# Altium schematic symbol library Schlib_Human_Machine_Interface.SchLib: 4 symbols
Pins are listed as number, name and electrical type; pins without a type are passive.

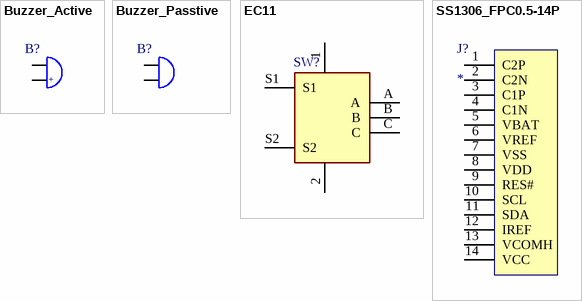
[diagram p0: symbols Buzzer_Active to SS1306_FPC0.5-14P]

## Buzzer_Active
designator B?
Active Buzzer
footprint BEEP 7.6x12x9.5
pins: 1, 2
text: +

## Buzzer_Passtive
designator B?
Passtive Buzzer
pins: 1, 2

## EC11
designator SW?
Alps 15 Pulse Incremental Mechanical Rotary Encoder with a 5.975 mm Flat Shaft (Not Indexed), SMD; Manufacturer_Name: ALPS Electric; Manufacturer_Part_Number: EC11J1525602; Geometry.Height: 24.5mm; Mouser Part Number: *; Mouser Price/Stock: *; Arrow Part Number: *; Arrow Price/Stock: *; Datasheet Link: https://www.tme.eu/Document/0ebbc64ade625a62b285b77e718a2ac7/ALPS-EC11J.pdf
footprint SMD EC11 8mm
pins: 1, 2, A, B, C, S1, S2

## SS1306_FPC0.5-14P
designator J?
0.91inch OLED Module
footprint OLED 0.91 (Footprint not found)
pins: 1 C2P, 2 C2N, 3 C1P, 4 C1N, 5 VBAT, 6 VREF, 7 VSS, 8 VDD, 9 RES#, 10 SCL, 11 SDA, 12 IREF, 13 VCOMH, 14 VCC